# EAGLE library part 74*82 (library 74xx-eu)
2-bit binary full ADDER
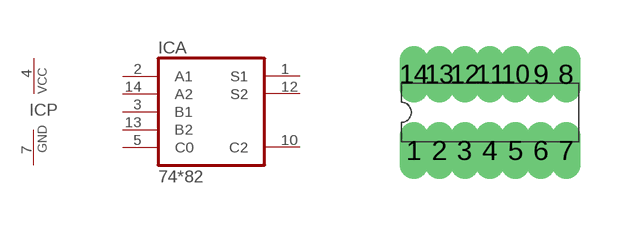
[diagram p57: symbol with the pads of DIL14; footprint DIL14]

Designator prefix IC; gates A=7482 P=PWRN

## 7482N  [DIL14]
1  A:S1  out
2  A:A1  in
3  A:B1  in
4  P:VCC  pwr
5  A:C0  in
7  P:GND  pwr
10  A:C2  out
12  A:S2  out
13  A:B2  in
14  A:A2  in

## Footprint DIL14 (pad centres in mm)
Dual In Line Package
drill 0.203 long: 1 -1.905,-0.953; 2 -1.27,-0.953; 3 -0.635,-0.953; 4 0,-0.953; 5 0.635,-0.953; 6 1.27,-0.953; 7 1.905,-0.953; 8 1.905,0.953; 9 1.27,0.953; 10 0.635,0.953; 11 0,0.953; 12 -0.635,0.953; 13 -1.27,0.953; 14 -1.905,0.953